# EAGLE library part ENCODE (library micromouse)
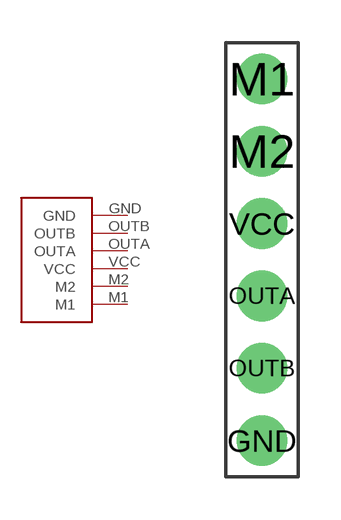
[diagram p3: symbol with the pads of ENCODE; footprint ENCODE]

Designator prefix ENCODE

## ENCODE  [ENCODE]
GND  GND
M1  M1
M2  M2
OUTA  OUTA
OUTB  OUTB
VCC  VCC

## Footprint ENCODE (pad centres in mm)
drill 1.016 pad 1.778: GND 1.27,1.27; M1 1.27,13.97; M2 1.27,11.43; OUTA 1.27,6.35; OUTB 1.27,3.81; VCC 1.27,8.89